# Altium footprint library Flight_ControllerPCBlib.PcbLib: 7 footprints
Each footprint in its own frame and in the unit in brackets; x right, y up, seen from the top. Pads: shape width x height; smd on the part's side, far side on the other; paste and mask are expansions set on the pad; w line width, h text height; cw(c..) or ccw(c..) is an arc to the next point about the centre after c.
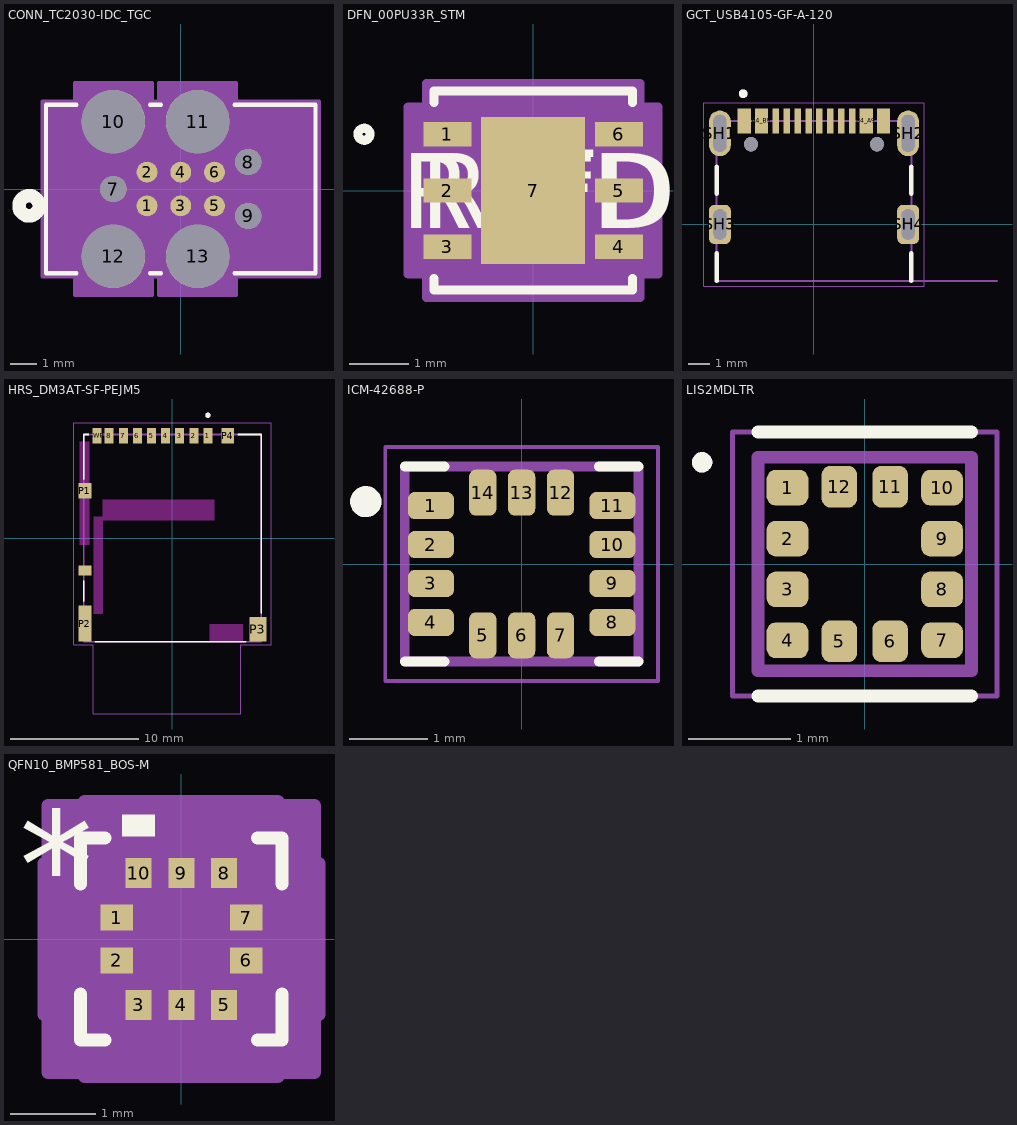
[diagram p0: the footprints below, top view; thin cyan lines are the x and y axes]

## CONN_TC2030-IDC_TGC [mil]
pads (13):
  round 31 smd paste-15.5 mask+0: 1(-50,-25) 2(-50,25) 3(0,-25) 4(0,25) 5(50,-25) 6(50,25)
  round 39 hole 39 unplated paste-99999 mask+0: 7(-100,0) 8(100,40) 9(100,-40)
  round 94 hole 94 unplated paste-99999 mask+0: 10(-100,100) 11(25,100) 12(-100,-100) 13(25,-100)
Top Overlay:
  circle w20: c-225,-25 r15
  lines w6: -154.65,-125 -200,-125 -200,125 -154.65,125 ; -45.35,-125 -29.65,-125 ; -45.35,125 -29.65,125 ; 79.65,-125 200,-125 200,125 79.65,125
  text ".Designator" at -137.5,-25 h50
Bottom Overlay:
  circle w20: c-225,-25 r15
Mechanical 13:
  circle w20: c-50,-100 r15
  lines w1: -195,-120 195,-120 195,120 -195,120 -195,-120
  text ".Designator" at -137.5,-25 h50
Mechanical 15:
  region: -32,-157 82,-157 82,-130 205,-130 205,130 82,130 82,157 -32,157 -32,130 -43,130 -43,157 -157,157 -157,130 -205,130 -205,-130 -157,-130 -157,-157 -43,-157 -43,-130 -32,-130
  lines w6: -205,-130 -205,130 -157,130 -157,157 -43,157 -43,130 -32,130 -32,157 82,157 82,130 205,130 205,-130 82,-130 82,-157 -32,-157 -32,-130 -43,-130 -43,-157 -157,-157 -157,-130 -205,-130

## DFN_00PU33R_STM [mil]
pads (7):
  rect 32x16 smd paste+0 mask+0: 1(-57,37.4) 2(-57,0) 3(-57,-37.4) 4(57,-37.4) 5(57,0) 6(57,37.4)
  rect 69x98 smd paste+0 mask+0: 7(0,0)
Top Overlay:
  circle w6: c-112.4,37.4 r4
  lines w6: -66,-58.5 -66,-66 66,-66 66,-58.5 ; -66,58.5 -66,66 66,66 66,58.5
  text "RefDes" at -75,-25 h50
  text "REFDES" at -87.5,-25 h50
Mechanical 13:
  circle w0: c-41,37.4 r3
  lines w0: -12,61 ccw(c0,61) 12,61
  lines w1: -61,-61 61,-61 61,61 -61,61 -61,-61
  text "RefDes2" at -87.5,-25 h50
Mechanical 15:
  region: -71,-55.4 -83,-55.4 -83,55.4 -71,55.4 -71,71 71,71 71,55.4 83,55.4 83,-55.4 71,-55.4 71,-71 -71,-71
  lines w6: -83,-55.4 -83,55.4 -71,55.4 -71,71 71,71 71,55.4 83,55.4 83,-55.4 71,-55.4 71,-71 -71,-71 -71,-55.4 -83,-55.4
3D body "DFN_00PU33R_STM.step": height 32.09, standoff 0, extent -60.98,-60.98 60.98,60.98

## GCT_USB4105-GF-A-120 [mm]
height 3.31
pads (18):
  rect 0.6x1.15 smd: A1_B12(-3.2,4.755) A4_B9(-2.4,4.755) B1_A12(3.2,4.755) B4_A9(2.4,4.755)
  rect 0.3x1.15 smd: A5(-1.25,4.755) A6(-0.25,4.755) A7(0.25,4.755) A8(1.25,4.755) B5(1.75,4.755) B6(0.75,4.755) B7(-0.75,4.755) B8(-1.75,4.755)
  oval 1x2.1 hole 0.6 slot 1.7 at 90 deg: SH1(-4.32,4.18) SH2(4.32,4.18)
  rrect50% 1x1.8 hole 0.6 slot 1.4 at 90 deg: SH3(-4.32,0) SH4(4.32,0)
  round 0.65 hole 0.65 unplated: ""(-2.89,3.68) ""(2.89,3.68)
Top Overlay:
  circle w0.2: c-3.25,6 r0.1
  lines w0.2: -4.47,-2.6 -4.47,-1.32 ; -4.47,1.4 -4.47,2.65 ; 4.47,-2.6 4.47,-1.32 ; 4.47,1.4 4.47,2.65
Mechanical 13:
  circle w0.2: c-3.25,6 r0.1
  lines w0.1: 8.4,-2.6 4.47,-2.6 ; 4.47,-2.6 4.47,4.75 -4.47,4.75 -4.47,-2.6 4.47,-2.6
  text "PCB EDGE" at 5.4,-2.5 h0.41
Mechanical 15:
  lines w0.05: -5.07,-2.85 -5.07,5.58 5.07,5.58 5.07,-2.85 -5.07,-2.85
3D body "step_temp.STEP": height 3.31, standoff -1.2, extent -4.47,-2.6 4.47,5.11

## HRS_DM3AT-SF-PEJM5 [mm]
height 1.83
pads (14):
  rect 0.7x1.2 smd paste+0 mask+0.102: 1(2.775,7.975) 2(1.675,7.975) 3(0.575,7.975) 4(-0.525,7.975) 5(-1.625,7.975) 6(-2.725,7.975) 7(-3.825,7.975) 8(-4.925,7.975) SWB(-5.875,7.975)
  rect 1x1.2 smd paste+0 mask+0.102: P1(-6.825,3.675) P4(4.325,7.975)
  rect 1x2.8 smd paste+0 mask+0.102: P2(-6.825,-6.675)
  rect 1.3x1.9 smd paste+0 mask+0.102: P3(6.675,-7.125)
  rect 1x0.8 smd paste+0 mask+0.102: SWA(-6.825,-2.525)
Top Overlay:
  circle w0.2: c2.775,9.575 r0.1
  lines w0.127: -6.925,-4.925 -6.925,-3.325 ; -6.925,4.595 -6.925,8.075 -6.545,8.075 ; -6.005,-8.075 5.705,-8.075 ; 5.145,8.075 6.925,8.075 6.925,-5.855
Keep-Out Layer:
  region: -5.425,-5.925 -6.125,-5.925 -6.125,1.675 -5.425,1.675
  region: 3.275,1.375 -5.425,1.375 -5.425,2.975 3.275,2.975
  region: 5.475,-8.075 2.925,-8.075 2.925,-6.725 5.475,-6.725
  region: -6.475,4.275 -7.225,4.275 -7.225,7.525 -6.475,7.525
  region: -6.475,-0.525 -7.225,-0.525 -7.225,3.075 -6.475,3.075
Mechanical 13:
  circle w0.2: c2.775,9.575 r0.1
  lines w0.127: -6.925,-8.075 -6.925,8.075 6.925,8.075 6.925,-8.075 -6.925,-8.075
  text "PCB Edge" at -2.368,-9.12 h0.61
Mechanical 15:
  lines w0.05: -7.675,-8.325 -7.675,8.975 7.7,8.975 7.7,-8.325 5.325,-8.325 5.325,-13.725 -6.175,-13.725 -6.175,-8.325 -7.675,-8.325
3D body "dm3at-sf-pejm5.stp": height 1.68, standoff 0, extent -6.962,-8.135 6.888,8.015

## ICM-42688-P [mm]
pads (14):
  rrect50% 0.59x0.35 smd mask+0: 1(-1.165,0.75) 2(-1.165,0.25) 3(-1.165,-0.25) 4(-1.165,-0.75) 8(1.165,-0.75) 9(1.165,-0.25) 10(1.165,0.25) 11(1.165,0.75)
  rrect50% 0.35x0.59 smd mask+0: 5(-0.5,-0.915) 6(0,-0.915) 7(0.5,-0.915) 12(0.5,0.915) 13(0,0.915) 14(-0.5,0.915)
Top Overlay:
  circle w0.2: c-2,0.8 r0.1
  lines w0.127: -1.5,-1.25 -0.99,-1.25 ; -1.5,1.25 -0.99,1.25 ; 0.99,-1.25 1.5,-1.25 ; 0.99,1.25 1.5,1.25
Top Solder:
  drawing of 14 lines, arcs and shapes, not listed
Mechanical 13:
  circle w0.2: c-2,0.8 r0.1
  lines w0.127: -1.5,-1.25 1.5,-1.25 1.5,1.25 -1.5,1.25 -1.5,-1.25
Mechanical 15:
  lines w0.05: -1.75,-1.5 1.75,-1.5 1.75,1.5 -1.75,1.5 -1.75,-1.5
3D body "ICM-42688-P.STEP": height 0.97, standoff 0, extent -1.5,-1.25 1.5,1.25

## LIS2MDLTR [mm]
pads (12):
  rrect50% 0.41x0.35 smd: 1(-0.76,0.75) 2(-0.76,0.25) 3(-0.76,-0.25) 4(-0.76,-0.75) 7(0.76,-0.75) 8(0.76,-0.25) 9(0.76,0.25) 10(0.76,0.75)
  rrect50% 0.35x0.41 smd: 5(-0.25,-0.76) 6(0.25,-0.76) 11(0.25,0.76) 12(-0.25,0.76)
Top Overlay:
  circle w0.1: c-1.6,1 r0.05
  lines w0.127: -1.05,-1.3 1.05,-1.3 ; -1.05,1.3 1.05,1.3
Mechanical 13:
  circle w0.1: c-1.6,1 r0.05
  lines w0.127: -1.05,-1.05 1.05,-1.05 1.05,1.05 -1.05,1.05 -1.05,-1.05
Mechanical 15:
  lines w0.05: -1.3,-1.3 -1.3,1.3 1.3,1.3 1.3,-1.3 -1.3,-1.3
3D body "LIS2MDLTR.step": height 0.7, standoff 0, extent -1,-1 1,1

## QFN10_BMP581_BOS-M [mil]
pads (10):
  rect 15x12 smd paste+0 mask+0: 1(-29.93,9.84) 2(-29.93,-9.84) 6(29.93,-9.84) 7(29.93,9.84)
  rect 12x14 smd paste+0 mask+0: 3(-19.68,-30.43) 4(0,-30.43) 5(19.68,-30.43) 8(19.68,30.43) 9(0,30.43) 10(-19.68,30.43)
Top Overlay:
  region: -12.19,47.43 -27.18,47.43 -27.18,57.43 -12.19,57.43
  lines w6: -46.5,-25.3 -46.5,-46.5 -35.14,-46.5 ; -46.5,25.3 -46.5,46.5 -35.14,46.5 ; 35.14,-46.5 46.5,-46.5 46.5,-25.3 ; 35.14,46.5 46.5,46.5 46.5,25.3
  text ".Designator" at -137.5,-25 h50
  text "*" at -74.93,9.69 h50
Mechanical 13:
  lines w1: -41.5,-8.5 8.5,41.5 ; -41.5,-41.5 -41.5,41.5 41.5,41.5 41.5,-41.5 -41.5,-41.5
  text "*" at -34.93,9.69 h50
  text ".Designator" at -137.5,-25 h50
Mechanical 15:
  region: -44.69,-61.5 -61.5,-61.5 -61.5,-34.84 -63.5,-34.84 -63.5,34.84 -61.5,34.84 -61.5,61.5 -44.69,61.5 -44.69,63.5 44.69,63.5 44.69,61.5 61.5,61.5 61.5,34.84 63.5,34.84 63.5,-34.84 61.5,-34.84 61.5,-61.5 44.69,-61.5 44.69,-63.5 -44.69,-63.5
  lines w6: -63.5,-34.84 -63.5,34.84 -61.5,34.84 -61.5,61.5 -44.69,61.5 -44.69,63.5 44.69,63.5 44.69,61.5 61.5,61.5 61.5,34.84 63.5,34.84 63.5,-34.84 61.5,-34.84 61.5,-61.5 44.69,-61.5 44.69,-63.5 -44.69,-63.5 -44.69,-61.5 -61.5,-61.5 -61.5,-34.84 -63.5,-34.84
3D body "QFN10_BMP581_BOS.step": height 32.09, standoff 0, extent -41.5,-41.5 41.5,41.5